# Altium integrated library PTS840_GM_SMTR_LFS.IntLib: 1 symbol
Pins are listed as number, name and electrical type; pins without a type are passive.

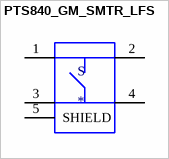
[diagram p0: symbol PTS840_GM_SMTR_LFS]

## PTS840_GM_SMTR_LFS
designator S
Tactile Switch SPST-NO Side Actuated Surface Mount, Right Angle; MP: PTS840 GM SMTR LFS; MF: C&K; Price: None; SnapEDA_Link: https://www.snapeda.com/parts/PTS840%20GM%20SMTR%20LFS/C&K/view-part/628485/?ref=snap; Availability: Unavailable; Value: *; Package: None
footprint SW_PTS840GMSMTRLFS
pins: 1, 2, 3, 4, 5 SHIELD